# Altium footprint library SOP254P1030X390-4N.PcbLib: 1 footprints
Each footprint in its own frame and in the unit in brackets; x right, y up, seen from the top. Pads: shape width x height; smd on the part's side, far side on the other; paste and mask are expansions set on the pad; w line width, h text height; cw(c..) or ccw(c..) is an arc to the next point about the centre after c.
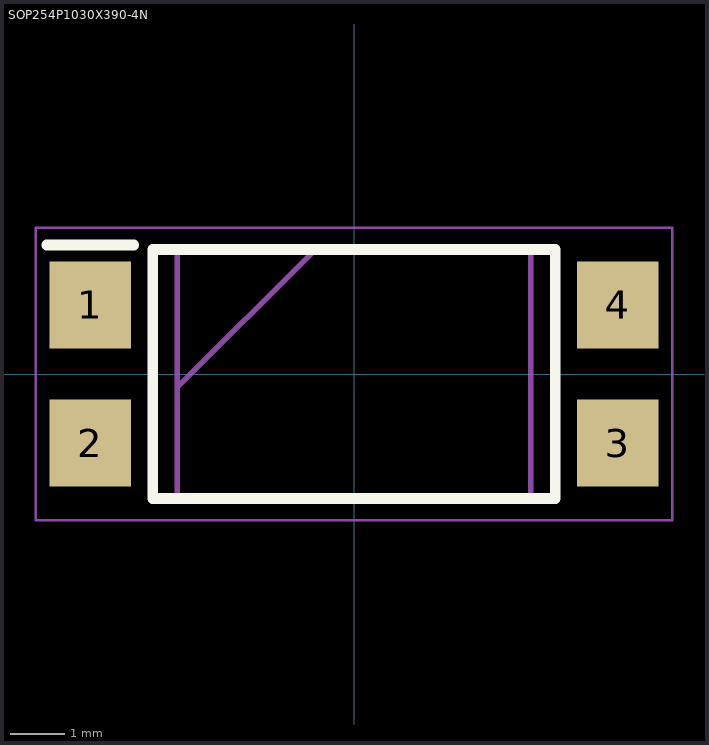
[diagram p0: the footprint, top view; thin cyan lines are the x and y axes]

## SOP254P1030X390-4N [mm]
pads (4):
  rect 1.5x1.6 smd: 1(-4.85,1.27) 2(-4.85,-1.27) 3(4.85,-1.27) 4(4.85,1.27)
Top Overlay:
  lines w0.2: -5.65,2.37 -4.05,2.37 ; -3.7,-2.29 3.7,-2.29 3.7,2.29 -3.7,2.29 -3.7,-2.29
Mechanical 15:
  lines w0.1: -3.25,-0.25 -0.71,2.29 ; -3.25,-2.29 3.25,-2.29 3.25,2.29 -3.25,2.29 -3.25,-2.29
Mechanical 20:
  lines w0.05: -5.85,-2.69 5.85,-2.69 5.85,2.69 -5.85,2.69 -5.85,-2.69